# EAGLE library part 613036143121 (library Board_to_Board_Connectors_rev15d)
WR-PHD 2.54mm Angled Socket Header, 36 Pins =>Code : Con_BTB_SHD_2.54_1_THT_613036143121 <http://katalog.we-online.de/media/images/eican/Con_BTB_SHD_2.54_1_THT_6130xx143121_pf2.jpg> Details see: http://katalog.we-online.de/en/em/613_0xx_143_121 Created 2014-05-29, Karrer Zheng 2014 (C) Würth Elektronik
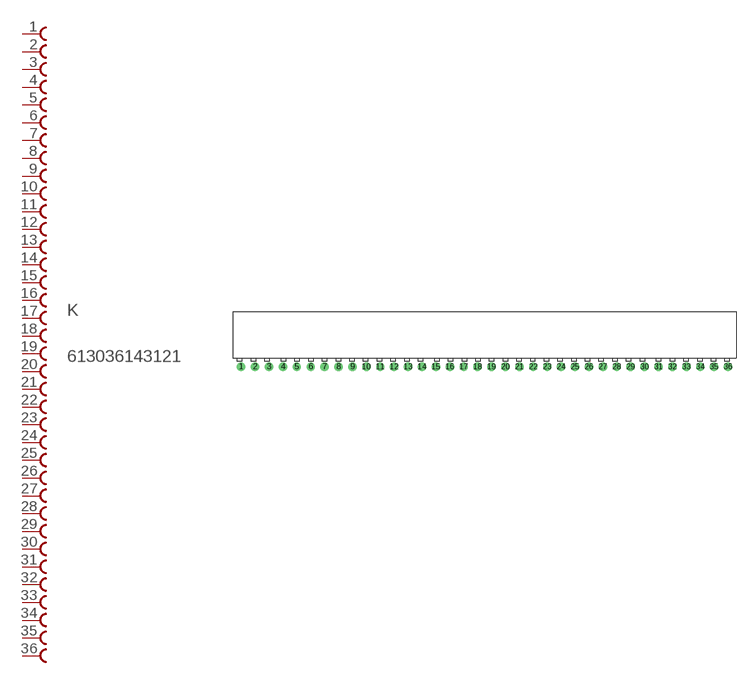
[diagram p146: symbol with the pads of 613036143121; footprint 613036143121]

Designator prefix K

## 613036143121  [613036143121]
1  1  pas
2  2  pas
3  3  pas
4  4  pas
5  5  pas
6  6  pas
7  7  pas
8  8  pas
9  9  pas
10  10  pas
11  11  pas
12  12  pas
13  13  pas
14  14  pas
15  15  pas
16  16  pas
17  17  pas
18  18  pas
19  19  pas
20  20  pas
21  21  pas
22  22  pas
23  23  pas
24  24  pas
25  25  pas
26  26  pas
27  27  pas
28  28  pas
29  29  pas
30  30  pas
31  31  pas
32  32  pas
33  33  pas
34  34  pas
35  35  pas
36  36  pas

## Footprint 613036143121 (pad centres in mm)
WR-PHD 2.54mm Angled Socket Header, 36 Pins
drill 1.02: 1 -78.74,0; 2 -76.2,0; 3 -73.66,0; 4 -71.12,0; 5 -68.58,0; 6 -66.04,0; 7 -63.5,0; 8 -60.96,0; 9 -58.42,0; 10 -55.88,0; 11 -53.34,0; 12 -50.8,0; 13 -48.26,0; 14 -45.72,0; 15 -43.18,0; 16 -40.64,0; 17 -38.1,0; 18 -35.56,0; 19 -33.02,0; 20 -30.48,0; 21 -27.94,0; 22 -25.4,0; 23 -22.86,0; 24 -20.32,0; 25 -17.78,0; 26 -15.24,0; 27 -12.7,0; 28 -10.16,0; 29 -7.62,0; 30 -5.08,0; 31 -2.54,0; 32 0,0; 33 2.54,0; 34 5.08,0; 35 7.62,0; 36 10.16,0